# Altium schematic symbol library JR6001.SchLib: 1 symbol
Pins are listed as number, name and electrical type; pins without a type are passive.

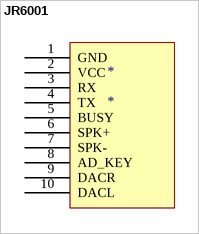
[diagram p0: symbol JR6001]

## JR6001
designator *
footprint DIP20
pins: 1 GND, 2 VCC, 3 RX, 4 TX, 5 BUSY, 6 SPK+, 7 SPK-, 8 AD_KEY, 9 DACR, 10 DACL